# EAGLE library part ADS8323 (library ICs)
16-Bit, 500kSPS, microPower Sampling, low cost, SAR ANALOG-TO-DIGITAL CONVERTER
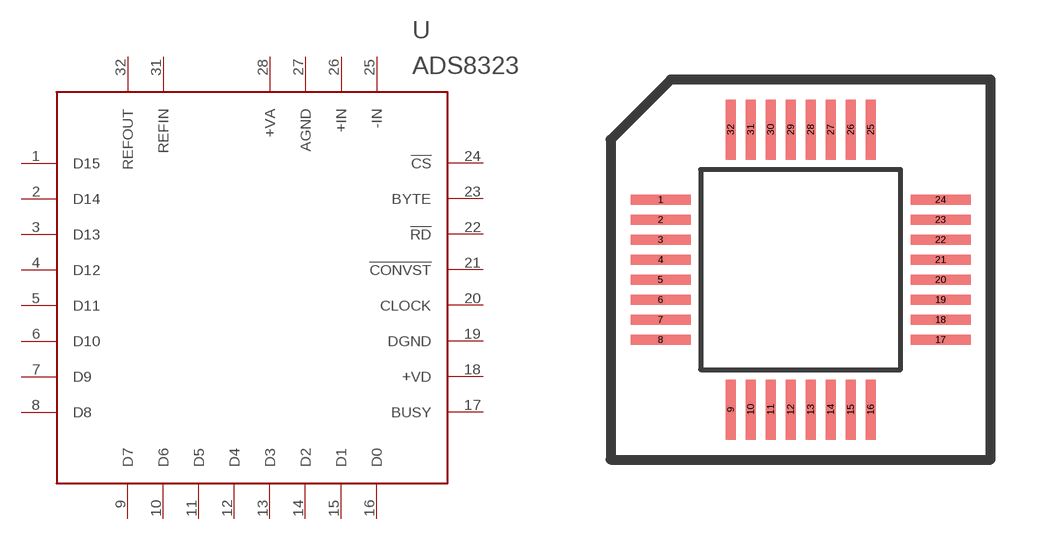
[diagram p43: symbol with the pads of QFP32_0.5MM; footprint QFP32_0.5MM]

Designator prefix U

## ADS8323Y (FARNELL: 1212290)  [QFP32_0.5MM]
1  D15
2  D14
3  D13
4  D12
5  D11
6  D10
7  D9
8  D8
9  D7
10  D6
11  D5
12  D4
13  D3
14  D2
15  D1
16  D0
17  BUSY
18  +VD
19  DGND
20  CLOCK
21  !CONVST
22  !RD
23  BYTE
24  !CS
25  -IN
26  +IN
27  AGND
28  +VA
31  REFIN
32  REFOUT

## Footprint QFP32_0.5MM (pad centres in mm)
smd 1.5 x 0.25: 1 -3.5,1.75; 2 -3.5,1.25; 3 -3.5,0.75; 4 -3.5,0.25; 5 -3.5,-0.25; 6 -3.5,-0.75; 7 -3.5,-1.25; 8 -3.5,-1.75; 17 3.5,-1.75; 18 3.5,-1.25; 19 3.5,-0.75; 20 3.5,-0.25; 21 3.5,0.25; 22 3.5,0.75; 23 3.5,1.25; 24 3.5,1.75
smd 0.25 x 1.5: 9 -1.75,-3.5; 10 -1.25,-3.5; 11 -0.75,-3.5; 12 -0.25,-3.5; 13 0.25,-3.5; 14 0.75,-3.5; 15 1.25,-3.5; 16 1.75,-3.5; 25 1.75,3.5; 26 1.25,3.5; 27 0.75,3.5; 28 0.25,3.5; 29 -0.25,3.5; 30 -0.75,3.5; 31 -1.25,3.5; 32 -1.75,3.5